# Altium schematic symbol library ESP32 Relay Card.SchLib: 26 symbols
Pins are listed as number, name and electrical type; pins without a type are passive.

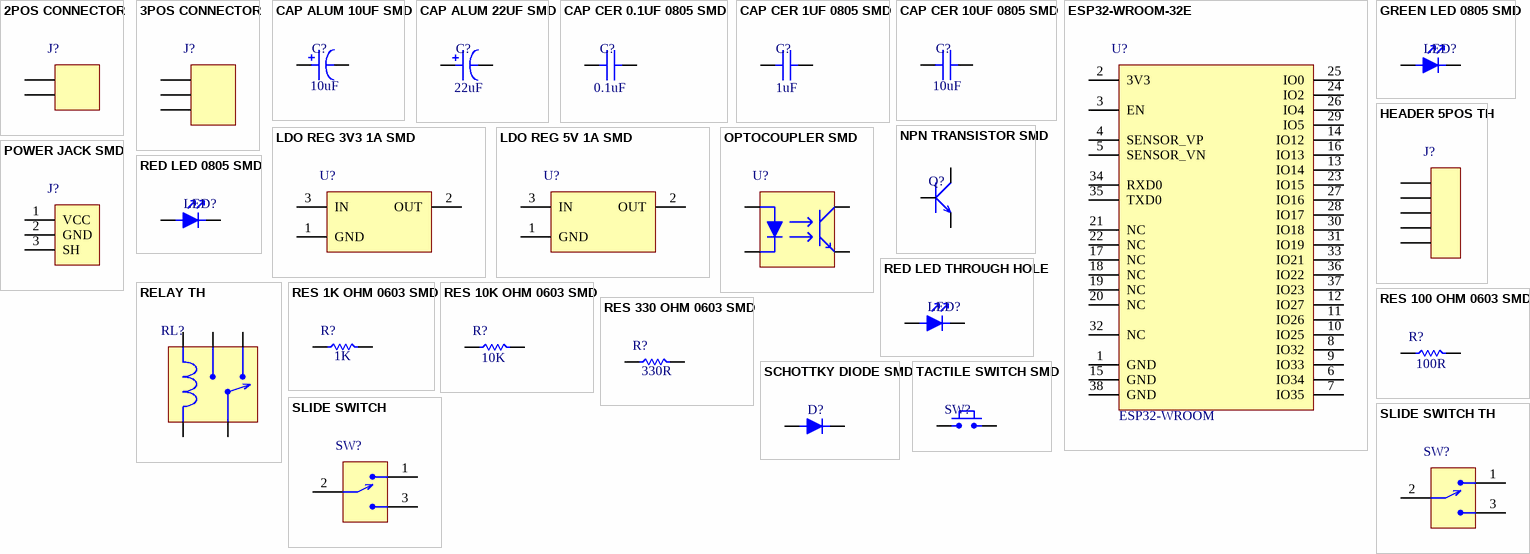
[diagram p0: symbols 2POS CONNECTOR to TACTILE SWITCH SMD]

## 2POS CONNECTOR
designator J?, comment TB006-508-02BE  (value not drawn)
TERM BLK 2P 5.08 PCB
footprint 2POS CONNECTOR
pins: 1, 2

## 3POS CONNECTOR
designator J?, comment OSTTA034163  (value not drawn)
TERM BLK 3P 5.08MM PCB
footprint 3POS CONNECTOR
pins: 1, 2, 3

## CAP ALUM 10UF SMD
designator C?, comment value 10uF  (hidden comment: 875105359001)
CAP ALUM 10UF 20% 16V SMD
footprint CAP ALUM 10UF
pins: 1, 2

## CAP ALUM 22UF SMD
designator C?, comment value 22uF  (hidden comment: A766EB226M1DLAE060)
CAP ALUM 22UF 20% 20V SMD
footprint CAP ALUM 22UF
pins: 1, 2

## CAP CER 0.1UF 0805 SMD
designator C?, comment value 0.1uF  (hidden comment: CC0805KRX7R9BB104)
CAP CER 0.1UF 50V X7R 0805
footprint CAP 0805
pins: 1, 2

## CAP CER 1UF 0805 SMD
designator C?, comment value 1uF  (hidden comment: CC0805KKX7R9BB105)
CAP CER 1UF 50V X7R 0805
footprint CAP 0805
pins: 1, 2

## CAP CER 10UF 0805 SMD
designator C?, comment value 10uF  (hidden comment: CC0805KKX5R8BB106)
CAP CER 10UF 25V X5R 0805
footprint CAP 0805
pins: 1, 2

## ESP32-WROOM-32E
designator U?, comment value ESP32-WROOM  (hidden comment: ESP32-WROOM-32E-H4)
RF TXRX MOD BT WIFI TH SMD
footprint ESP32
pins: 1 GND, 2 3V3, 3 EN, 4 SENSOR_VP, 5 SENSOR_VN, 6 IO34, 7 IO35, 8 IO32, 9 IO33, 10 IO25, 11 IO26, 12 IO27, 13 IO14, 14 IO12, 15 GND, 16 IO13, 17 NC, 18 NC, 19 NC, 20 NC, 21 NC, 22 NC, 23 IO15, 24 IO2, 25 IO0, 26 IO4, 27 IO16, 28 IO17, 29 IO5, 30 IO18, 31 IO19, 32 NC, 33 IO21, 34 RXD0, 35 TXD0, 36 IO22, 37 IO23, 38 GND

## GREEN LED 0805 SMD
designator LED?, comment 150080VS75000  (value not drawn)
LED GREEN 0805 SMD
footprint LED 0805 SMD
pins: 1, 2

## HEADER 5POS TH
designator J?, comment 61300511121  (value not drawn)
CONN HEADER 5POS 2.54MM
footprint HEADER
pins: 1, 2, 3, 4, 5

## LDO REG 3V3 1A SMD
designator U?, comment AMS1117-3.3  (value not drawn)
IC LDO REG 3.3V 1A SOT223
footprint SOT223
pins: 1 GND, 2 OUT, 3 IN

## LDO REG 5V 1A SMD
designator U?, comment AMS1117-5.0  (value not drawn)
IC LDO REG 5V 1A SOT223
footprint SOT223
pins: 1 GND, 2 OUT, 3 IN

## NPN TRANSISTOR SMD
designator Q?, comment MMBT3904-7-F  (value not drawn)
TRANS NPN 40V 0.2A SOT23-3
footprint SOT23-3
pins: 1, 2, 3

## OPTOCOUPLER SMD
designator U?, comment APC-817B1-SL  (value not drawn)
OPTOISOLATOR 5KV 1CH SMD
footprint OPTOISOLATOR
pins: 1, 2, 3, 4

## POWER JACK SMD
designator J?, comment PJ-036BH-SMT-TR  (value not drawn)
POWER JACK 2.5X5.5MM SOLDER
footprint POWER JACK
pins: 1 VCC, 2 GND, 3 SH

## RED LED 0805 SMD
designator LED?, comment 150080RS75000  (value not drawn)
LED RED 0805 SMD
footprint LED 0805 SMD
pins: 1, 2

## RED LED THROUGH HOLE
designator LED?, comment WP7113ID  (value not drawn)
LED RED TH
footprint RED LED TH
pins: 1, 2

## RELAY TH
designator RL?, comment G5LE-1 DC5  (value not drawn)
RELAY 5VDC COIL 10A
footprint RELAY
pins: 1, 2, 3, 4, 5

## RES 1K OHM 0603 SMD
designator R?, comment value 1K  (hidden comment: CRGH0603J1K0)
RES 1K OHM 5% 1/5W 0603
footprint RES 0603
pins: 1, 2

## RES 10K OHM 0603 SMD
designator R?, comment value 10K  (hidden comment: CRGH0603J10K)
RES 10K OHM 5% 1/5W 0603
footprint RES 0603
pins: 1, 2

## RES 100 OHM 0603 SMD
designator R?, comment value 100R  (hidden comment: CRGH0603J100R)
RES 100 OHM 5% 1/5W 0603
footprint RES 0603
pins: 1, 2

## RES 330 OHM 0603 SMD
designator R?, comment value 330R  (hidden comment: CRGH0603F330R)
RES 330 OHM 1% 1/5W 0603
footprint RES 0603
pins: 1, 2

## SCHOTTKY DIODE SMD
designator D?, comment 1N5819W  (value not drawn)
DIODE SCHOTTKY 40V 1A SOD-123F
footprint SOD-123F
pins: 1, 2

## SLIDE SWITCH
designator SW?, comment 500ASSP1SM6QE  (value not drawn)
SWITCH SLIDE 3A 120V
footprint SLIDE SWITCH
pins: 1, 2, 3

## SLIDE SWITCH TH
designator SW?, comment 500SSP1S2M2QEA  (value not drawn)
SWITCH SLIDE 5A 120V
footprint TACTICLE SWITCH TH
pins: 1, 2, 3

## TACTILE SWITCH SMD
designator SW?, comment PTS636SM43SMTR LFS  (value not drawn)
SWITCH TACTILE 0.05A 12V
footprint TACTICLE SWITCH
pins: 1, 2